# Altium footprint library SWITCH_TACT_PUSHB.PcbLib: 49 footprints (part 2 of 4)
Each footprint in its own frame and in the unit in brackets; x right, y up, seen from the top. Pads: shape width x height; smd on the part's side, far side on the other; paste and mask are expansions set on the pad; w line width, h text height; cw(c..) or ccw(c..) is an arc to the next point about the centre after c.
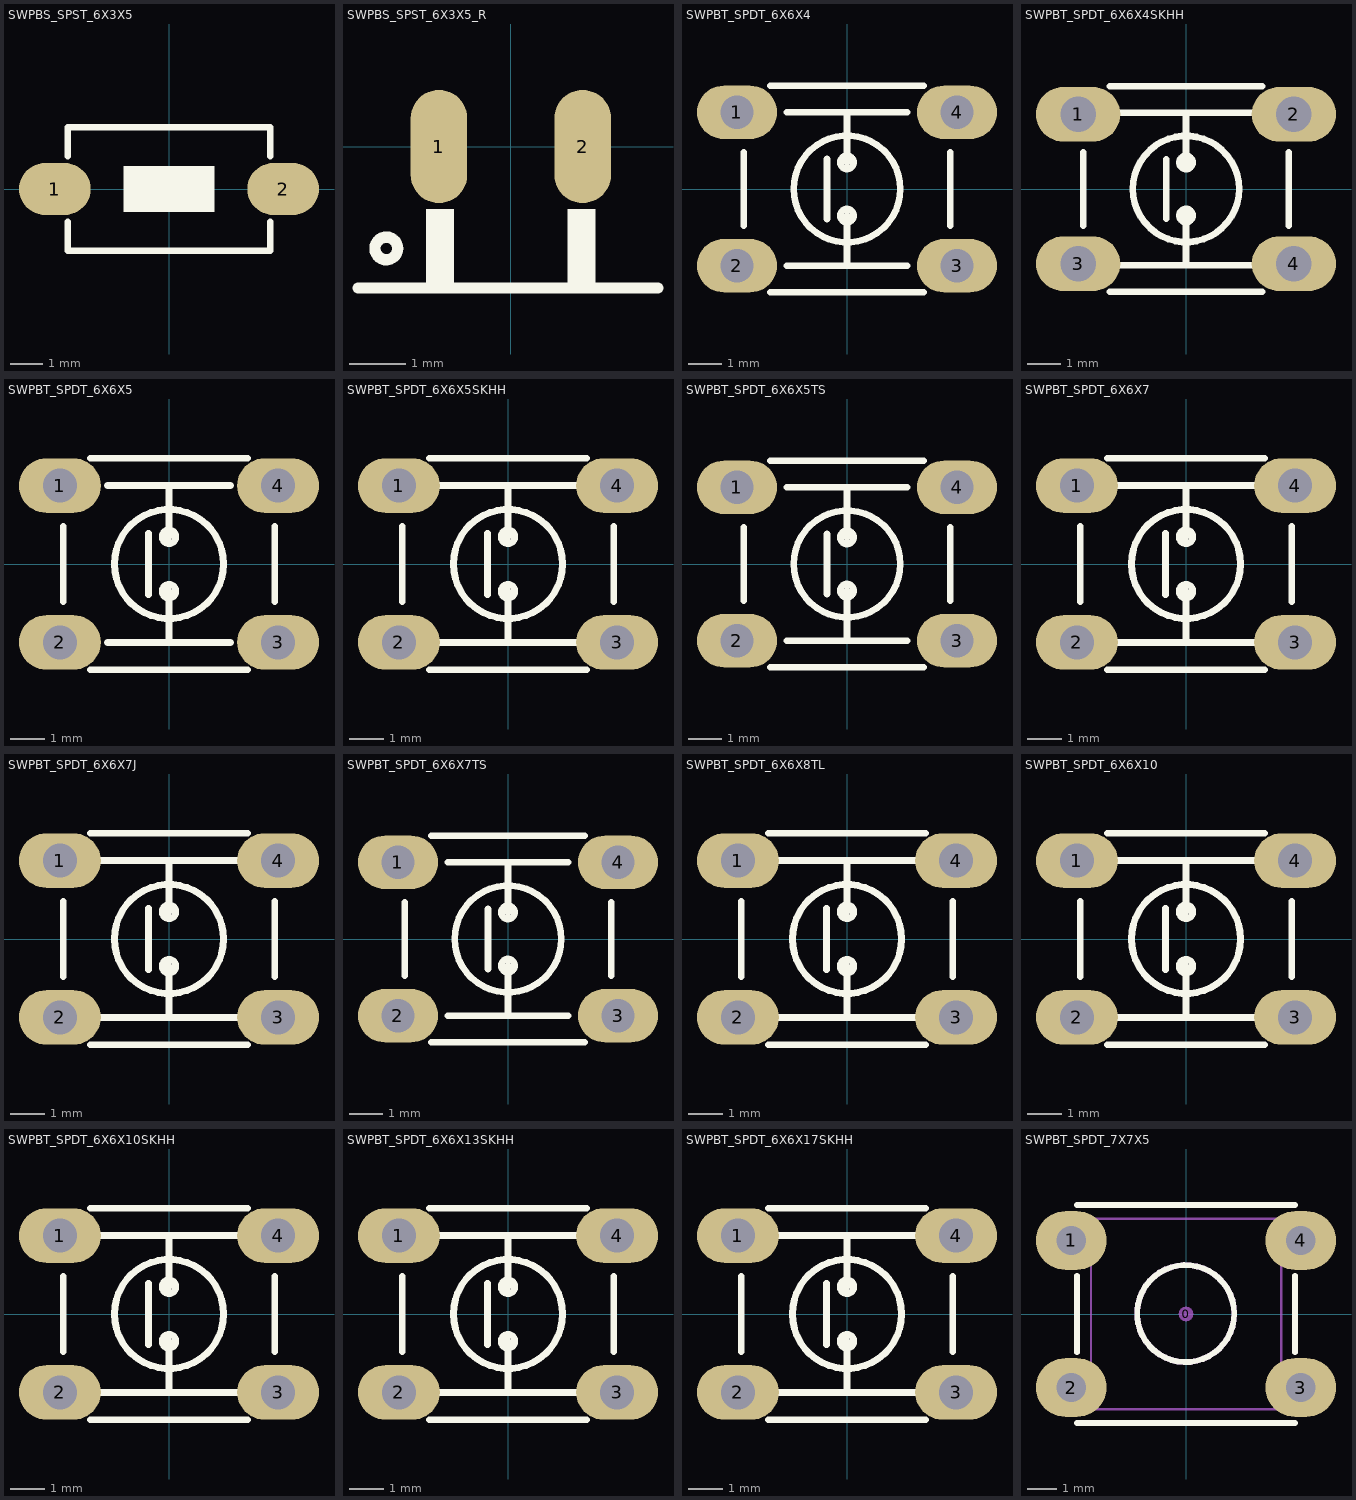
[diagram p1: the footprints below, top view; thin cyan lines are the x and y axes]

## SWPBS_SPST_6X3X5 [mm] "SWITCH, PUSHBUTTON, SMD, SPST, 6X3.5mm, SKQMBBE010, 50000 Cycles, 1.57N Force"
height 5
pads (2):
  oval 2.2x1.6 smd mask+0.1: 1(-3.5,0) 2(3.5,0)
Top Overlay:
  region: 1.4,0.7 -1.4,0.7 -1.4,-0.7 1.4,-0.7
  lines w0.2: -3.1,-1 -3.1,-1.9 3.1,-1.9 3.1,-1 ; -3.1,1 -3.1,1.9 3.1,1.9 3.1,1
3D body "43685.stp": height 5, standoff 0, extent -3.649,-1.75 3.65,1.75

## SWPBS_SPST_6X3X5_R [mm] "SWITCH, PUSHBUTTON, SMD, SPST, RIGHT"
pads (2):
  oval 1x2 smd mask+0.1: 1(-1.27,0) 2(1.27,0)
Top Overlay:
  circle w0.2: c-2.2,-1.8 r0.2
  rectangle: -1.5,-2.5 -1,-1.1
  region: 1.5,-1.1 1,-1.1 1,-2.5 1.5,-2.5
  lines w0.2: -2.7,-2.5 2.6,-2.5
3D body "43685.stp": height 3.55, standoff 0.05, extent -3.649,-5 3.65,0

## SWPBT_SPDT_6X6X4 [mm] "SWITCH, PUSHBUTTON, THD, SPDT, TS-1143"
height 4.318
pads (4):
  oval 2.4x1.6 hole 1 mask+0.1: 1(-3.3,2.3) 2(-3.3,-2.3) 3(3.3,-2.3) 4(3.3,2.3)
Top Overlay:
  circle w0.2: c0,-0.8 r0.2
  circle w0.2: c0,0.8 r0.2
  circle w0.2: c0,0 r1.6
  lines w0.2: -3.1,-1.1 -3.1,1.1 ; -2.3,-3.1 2.3,-3.1 ; -2.3,3.1 2.3,3.1 ; -1.8,-2.3 1.8,-2.3 ; -1.8,2.3 1.8,2.3 ; -0.6,-0.9 -0.6,0.9 ; 0,-2.3 0,-0.8 ; 0,0.8 0,2.3 ; 3.1,-1.1 3.1,1.1
3D body "TS-1143-WP.stp": height 4.3, standoff -3.5, extent -4.134,-3.25 4.134,3.25

## SWPBT_SPDT_6X6X4SKHH [mm] "SWITCH, PUSHBUTTON, THD, SPDT, 6X6X4.3 mm Height ; 1,000,000 cycles ; 0.98N Force, SKHHAJA010"
height 4.3
pads (4):
  oval 2.54x1.651 hole 1.067 mask+0.1: 1(-3.25,2.25) 2(3.25,2.25) 3(-3.25,-2.25) 4(3.25,-2.25)
Top Overlay:
  circle w0.2: c0,0 r1.6
  circle w0.2: c0,0.8 r0.2
  circle w0.2: c0,-0.8 r0.2
  lines w0.2: -3.1,-1.1 -3.1,1.1 ; -2.3,-3.1 2.3,-3.1 ; -2.3,3.1 2.3,3.1 ; -2,-2.3 2,-2.3 ; -2,2.3 2,2.3 ; -0.6,-0.9 -0.6,0.9 ; 0,-2.3 0,-0.8 ; 0,0.8 0,2.3 ; 3.1,-1.1 3.1,1.1
3D body "SKHHAJ.STEP": height 4.33, standoff -3.47, extent -3.95,-3.1 3.95,3.1

## SWPBT_SPDT_6X6X5 [mm] "SWITCH, PUSHBUTTON, THD, SPDT, 6X6mm"
pads (4):
  oval 2.4x1.6 hole 1 mask+0.1: 1(-3.2,2.3) 2(-3.2,-2.3) 3(3.2,-2.3) 4(3.2,2.3)
Top Overlay:
  circle w0.2: c0,0 r1.6
  circle w0.2: c0,0.8 r0.2
  circle w0.2: c0,-0.8 r0.2
  lines w0.2: -3.1,-1.1 -3.1,1.1 ; -2.3,-3.1 2.3,-3.1 ; -2.3,3.1 2.3,3.1 ; -1.8,-2.3 1.8,-2.3 ; -1.8,2.3 1.8,2.3 ; -0.6,-0.9 -0.6,0.9 ; 0,-2.3 0,-0.8 ; 0,0.8 0,2.3 ; 3.1,-1.1 3.1,1.1
3D body "Tactile switch 6x6x5mm.step": height 5.01, standoff -3.51, extent -3.872,-3.015 3.871,3.015

## SWPBT_SPDT_6X6X5SKHH [mm] "SWITCH, PUSHBUTTON, THD, SPDT, 6X6X5.0 mm Height ; 1,000,000 cycles ; 0.98N Force, SKHHAKA010"
height 5
pads (4):
  oval 2.4x1.6 hole 1 mask+0.1: 1(-3.2,2.3) 2(-3.2,-2.3) 3(3.2,-2.3) 4(3.2,2.3)
Top Overlay:
  circle w0.2: c0,0 r1.6
  circle w0.2: c0,0.8 r0.2
  circle w0.2: c0,-0.8 r0.2
  lines w0.2: -3.1,-1.1 -3.1,1.1 ; -2.3,-3.1 2.3,-3.1 ; -2.3,3.1 2.3,3.1 ; -2,-2.3 2,-2.3 ; -2,2.3 2,2.3 ; -0.6,-0.9 -0.6,0.9 ; 0,-2.3 0,-0.8 ; 0,0.8 0,2.3 ; 3.1,-1.1 3.1,1.1
3D body "SKHHAK.STEP": height 5.03, standoff -3.47, extent -3.95,-3.1 3.95,3.1

## SWPBT_SPDT_6X6X5TS [mm] "SWITCH, PUSHBUTTON, THD, SPDT, TS-1150"
height 5.18
pads (4):
  oval 2.4x1.6 hole 1 mask+0.1: 1(-3.3,2.3) 2(-3.3,-2.3) 3(3.3,-2.3) 4(3.3,2.3)
Top Overlay:
  circle w0.2: c0,0 r1.6
  circle w0.2: c0,0.8 r0.2
  circle w0.2: c0,-0.8 r0.2
  lines w0.2: -3.1,-1.1 -3.1,1.1 ; -2.3,-3.1 2.3,-3.1 ; -2.3,3.1 2.3,3.1 ; -1.8,-2.3 1.8,-2.3 ; -1.8,2.3 1.8,2.3 ; -0.6,-0.9 -0.6,0.9 ; 0,-2.3 0,-0.8 ; 0,0.8 0,2.3 ; 3.1,-1.1 3.1,1.1
3D body "TS-1150-WP.stp": height 5, standoff -3.5, extent -4.134,-3.25 4.134,3.25

## SWPBT_SPDT_6X6X7 [mm] "SWITCH, PUSHBUTTON, THD, SPDT, 6X6X7.0 mm Height ; 1,000,000 cycles ; 0.98N Force, SKHHBVA010"
height 7
pads (4):
  oval 2.4x1.6 hole 1 mask+0.1: 1(-3.2,2.3) 2(-3.2,-2.3) 3(3.2,-2.3) 4(3.2,2.3)
Top Overlay:
  circle w0.2: c0,0 r1.6
  circle w0.2: c0,0.8 r0.2
  circle w0.2: c0,-0.8 r0.2
  lines w0.2: -3.1,-1.1 -3.1,1.1 ; -2.3,-3.1 2.3,-3.1 ; -2.3,3.1 2.3,3.1 ; -2,-2.3 2,-2.3 ; -2,2.3 2,2.3 ; -0.6,-0.9 -0.6,0.9 ; 0,-2.3 0,-0.8 ; 0,0.8 0,2.3 ; 3.1,-1.1 3.1,1.1
3D body "SKHHBV.STEP": height 7.03, standoff -3.47, extent -3.95,-3.1 3.95,3.1

## SWPBT_SPDT_6X6X7J [mm] "SWITCH, PUSHBUTTON, THD, SPDT, Joint Stem type; 7.3 mm Height ; 1,000,000 cycles ; 0.98N Force, SKHHCWA010"
height 7.3
pads (4):
  oval 2.4x1.6 hole 1 mask+0.1: 1(-3.2,2.3) 2(-3.2,-2.3) 3(3.2,-2.3) 4(3.2,2.3)
Top Overlay:
  circle w0.2: c0,0 r1.6
  circle w0.2: c0,0.8 r0.2
  circle w0.2: c0,-0.8 r0.2
  lines w0.2: -3.1,-1.1 -3.1,1.1 ; -2.3,-3.1 2.3,-3.1 ; -2.3,3.1 2.3,3.1 ; -2,-2.3 2,-2.3 ; -2,2.3 2,2.3 ; -0.6,-0.9 -0.6,0.9 ; 0,-2.3 0,-0.8 ; 0,0.8 0,2.3 ; 3.1,-1.1 3.1,1.1
3D body "SKHHCW.STEP": height 7.33, standoff -3.47, extent -3.95,-3.1 3.95,3.1

## SWPBT_SPDT_6X6X7TS [mm] "SWITCH, PUSHBUTTON, THD, SPDT, TS-1170"
height 6.985
pads (4):
  oval 2.4x1.6 hole 1 mask+0.1: 1(-3.3,2.3) 2(-3.3,-2.3) 3(3.3,-2.3) 4(3.3,2.3)
Top Overlay:
  circle w0.2: c0,-0.8 r0.2
  circle w0.2: c0,0.8 r0.2
  circle w0.2: c0,0 r1.6
  lines w0.2: -3.1,-1.1 -3.1,1.1 ; -2.3,-3.1 2.3,-3.1 ; -2.3,3.1 2.3,3.1 ; -1.8,-2.3 1.8,-2.3 ; -1.8,2.3 1.8,2.3 ; -0.6,-0.9 -0.6,0.9 ; 0,-2.3 0,-0.8 ; 0,0.8 0,2.3 ; 3.1,-1.1 3.1,1.1
3D body "TS-1170-WP.stp": height 7, standoff -3.5, extent -4.134,-3.25 4.134,3.25

## SWPBT_SPDT_6X6X8TL [mm] "SWITCH, PUSHBUTTON, THD, SPDT, 8.0mm, TL-1105-C"
height 8
pads (4):
  oval 2.4x1.6 hole 1 mask+0.1: 1(-3.2,2.3) 2(-3.2,-2.3) 3(3.2,-2.3) 4(3.2,2.3)
Top Overlay:
  circle w0.2: c0,-0.8 r0.2
  circle w0.2: c0,0.8 r0.2
  circle w0.2: c0,0 r1.6
  lines w0.2: -3.1,-1.1 -3.1,1.1 ; -2.3,-3.1 2.3,-3.1 ; -2.3,3.1 2.3,3.1 ; -2,-2.3 2,-2.3 ; -2,2.3 2,2.3 ; -0.6,-0.9 -0.6,0.9 ; 0,-2.3 0,-0.8 ; 0,0.8 0,2.3 ; 3.1,-1.1 3.1,1.1
3D body "TACT_SWITCH_TL-1105-C.STEP": height 8, standoff -3.5, extent -3.95,-3 3.95,3

## SWPBT_SPDT_6X6X10 [mm] "SWITCH, PUSHBUTTON, THD, SPDT,"
pads (4):
  oval 2.4x1.6 hole 1 mask+0.1: 1(-3.2,2.3) 2(-3.2,-2.3) 3(3.2,-2.3) 4(3.2,2.3)
Top Overlay:
  circle w0.2: c0,0 r1.6
  circle w0.2: c0,0.8 r0.2
  circle w0.2: c0,-0.8 r0.2
  lines w0.2: -3.1,-1.1 -3.1,1.1 ; -2.3,-3.1 2.3,-3.1 ; -2.3,3.1 2.3,3.1 ; -2,-2.3 2,-2.3 ; -2,2.3 2,2.3 ; -0.6,-0.9 -0.6,0.9 ; 0,-2.3 0,-0.8 ; 0,0.8 0,2.3 ; 3.1,-1.1 3.1,1.1
3D body "SW3dPS-Panasonic-EVQPA-Pushbutton.STEP": height 9.5, standoff -3.5, extent -4.106,-3 4.106,3

## SWPBT_SPDT_6X6X10SKHH [mm] "SWITCH, PUSHBUTTON, THD, SPDT, 6X6X9.5 mm Height ; 1,000,000 cycles ; 0.98N Force, SKHHANA010"
height 9.5
pads (4):
  oval 2.4x1.6 hole 1 mask+0.1: 1(-3.2,2.3) 2(-3.2,-2.3) 3(3.2,-2.3) 4(3.2,2.3)
Top Overlay:
  circle w0.2: c0,0 r1.6
  circle w0.2: c0,0.8 r0.2
  circle w0.2: c0,-0.8 r0.2
  lines w0.2: -3.1,-1.1 -3.1,1.1 ; -2.3,-3.1 2.3,-3.1 ; -2.3,3.1 2.3,3.1 ; -2,-2.3 2,-2.3 ; -2,2.3 2,2.3 ; -0.6,-0.9 -0.6,0.9 ; 0,-2.3 0,-0.8 ; 0,0.8 0,2.3 ; 3.1,-1.1 3.1,1.1
3D body "SKHHAN.STEP": height 9.53, standoff -3.47, extent -3.95,-3.1 3.95,3.1

## SWPBT_SPDT_6X6X13SKHH [mm] "SWITCH, PUSHBUTTON, THD, SPDT, 6X6X13.0 mm Height; 1,000,000 cycles ; 0.98N Force, SKHHDTA010"
height 13
pads (4):
  oval 2.4x1.6 hole 1 mask+0.1: 1(-3.2,2.3) 2(-3.2,-2.3) 3(3.2,-2.3) 4(3.2,2.3)
Top Overlay:
  circle w0.2: c0,0 r1.6
  circle w0.2: c0,0.8 r0.2
  circle w0.2: c0,-0.8 r0.2
  lines w0.2: -3.1,-1.1 -3.1,1.1 ; -2.3,-3.1 2.3,-3.1 ; -2.3,3.1 2.3,3.1 ; -2,-2.3 2,-2.3 ; -2,2.3 2,2.3 ; -0.6,-0.9 -0.6,0.9 ; 0,-2.3 0,-0.8 ; 0,0.8 0,2.3 ; 3.1,-1.1 3.1,1.1
3D body "SKHHDT.STEP": height 13.03, standoff -3.47, extent -3.95,-3.1 3.95,3.1

## SWPBT_SPDT_6X6X17SKHH [mm] "SWITCH, PUSHBUTTON, THD, SPDT, 6X6X17.0 mm Height ; 500,000 cycles ; 0.98N Force, SKHHDHA010"
height 17
pads (4):
  oval 2.4x1.6 hole 1 mask+0.1: 1(-3.2,2.3) 2(-3.2,-2.3) 3(3.2,-2.3) 4(3.2,2.3)
Top Overlay:
  circle w0.2: c0,0 r1.6
  circle w0.2: c0,0.8 r0.2
  circle w0.2: c0,-0.8 r0.2
  lines w0.2: -3.1,-1.1 -3.1,1.1 ; -2.3,-3.1 2.3,-3.1 ; -2.3,3.1 2.3,3.1 ; -2,-2.3 2,-2.3 ; -2,2.3 2,2.3 ; -0.6,-0.9 -0.6,0.9 ; 0,-2.3 0,-0.8 ; 0,0.8 0,2.3 ; 3.1,-1.1 3.1,1.1
3D body "SKHHDH.STEP": height 17.03, standoff -3.47, extent -3.95,-3.1 3.95,3.1

## SWPBT_SPDT_7X7X5 [mm] "SWITCH, PUSHBUTTON, THD, SPDT, 7.2X7.2mm, TC-37XB"
height 5
pads (5):
  round 0.508 on Mech15 mask+0.1: 0(0,0)
  oval 2.4x2 hole 1 mask+0.1: 1(-3.9,2.5) 2(-3.9,-2.5) 3(3.9,-2.5) 4(3.9,2.5)
Top Overlay:
  circle w0.2: c-0.011,0.014 r1.65
  lines w0.2: -3.7,-3.7 3.7,-3.7 ; -3.7,-1.3 -3.7,1.3 ; -3.7,3.7 3.7,3.7 ; 3.7,-1.3 3.7,1.3
Mechanical 13:
  circle w0.2: c-0.011,0.014 r1.65
  lines w0.076: -3.232,-3.237 -3.232,3.24 3.24,3.24 3.24,-3.237 -3.232,-3.237
3D body "TC-37XB.stp": height 5, standoff -3.9, extent -4.456,-3.6 4.456,3.6